# EAGLE library part BTS5215L (library mosfet-infineon)
BTS5215L Smart High-Side Power Switch, Two Channels: 2x90mOhm, Status Feedback SOP100P1030X260-13N-1-V
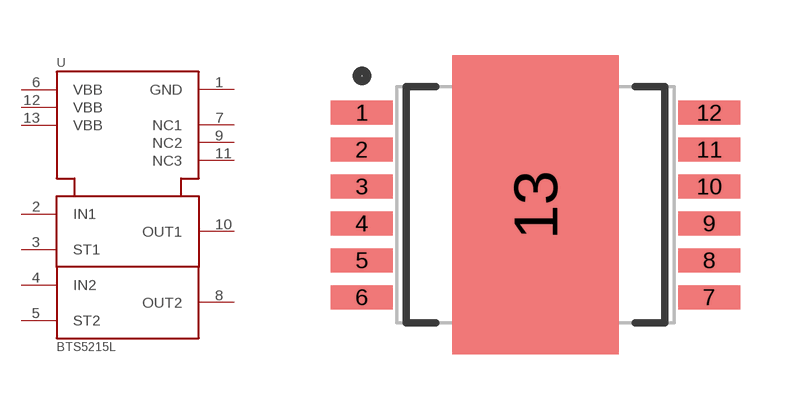
[diagram p13: symbol with the pads of SOP100P1030X260-13N-1-V; footprint SOP100P1030X260-13N-1-V]

Designator prefix U

## BTS5215L  [SOP100P1030X260-13N-1-V]
1  GND  pwr
2  IN1  in
3  ST1  oc
4  IN2  in
5  ST2  oc
6  VBB  pwr
7  NC1  pas
8  OUT2  out
9  NC2  pas
10  OUT1  out
11  NC3  pas
12  VBB  pwr
13  VBB  pwr

## Footprint SOP100P1030X260-13N-1-V (pad centres in mm)
Original name SOP100P1030X260-13N-1-V Max Component Height - 2.6mm
smd 1.67 x 0.65: 1 -4.7,2.5; 2 -4.7,1.5; 3 -4.7,0.5; 4 -4.7,-0.5; 5 -4.7,-1.5; 6 -4.7,-2.5; 7 4.7,-2.5; 8 4.7,-1.5; 9 4.7,-0.5; 10 4.7,0.5; 11 4.7,1.5; 12 4.7,2.5
smd 4.5 x 8.1: 13 0,0